# Altium schematic symbol library RES,470R,5%,0.25W,Axial,Thru.Schlib: 1 symbol
Pins are listed as number, name and electrical type; pins without a type are passive.

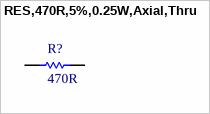
[diagram p0: symbol RES,470R,5%,0.25W,Axial,Thru]

## RES,470R,5%,0.25W,Axial,Thru
designator R?, comment 470R
470 Ohms ±5% 0.25W, 1/4W Through Hole Resistor Axial Flame Retardant Coating, Safety Carbon Film
pins: 1, 2